# EAGLE library part CC2520 (library ti_rf)
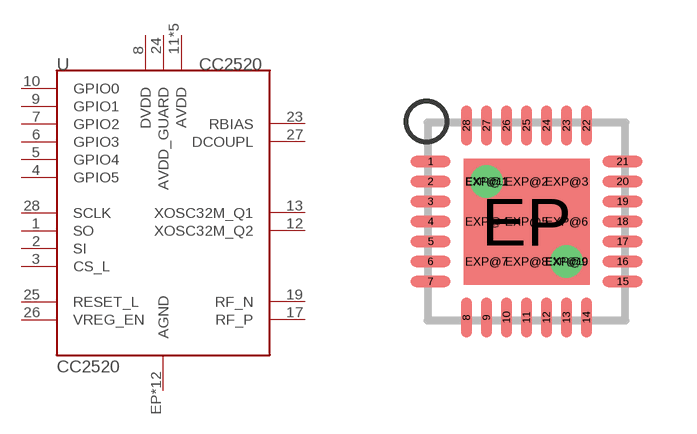
[diagram p0: symbol with the pads of RHD_S-PVQFN-N28; footprint RHD_S-PVQFN-N28]

Designator prefix U

## CC2520  [RHD_S-PVQFN-N28]
1  SO
2  SI
3  CS_L
4  GPIO5
5  GPIO4
6  GPIO3
7  GPIO2
8  DVDD
9  GPIO1
10  GPIO0
11  AVDD
12  XOSC32M_Q2
13  XOSC32M_Q1
14  AVDD
16  AVDD
17  RF_P
19  RF_N
20  AVDD
22  AVDD
23  RBIAS
24  AVDD_GUARD
25  RESET_L
26  VREG_EN
27  DCOUPL
28  SCLK
EP  AGND
EXP@1  AGND
EXP@2  AGND
EXP@3  AGND
EXP@4  AGND
EXP@5  AGND
EXP@6  AGND
EXP@7  AGND
EXP@8  AGND
EXP@9  AGND
EXP@10  AGND
EXP@11  AGND

## Footprint RHD_S-PVQFN-N28 (pad centres in mm)
RHB (S-PQFP-N32) Source: http://focus.ti.com/lit/ds/symlink/tusb2046b.pdf
smd 1 x 0.28: 1 -2.4,1.5; 2 -2.4,1; 3 -2.4,0.5; 4 -2.4,0; 5 -2.4,-0.5; 6 -2.4,-1; 7 -2.4,-1.5; 15 2.4,-1.5; 16 2.4,-1; 17 2.4,-0.5; 18 2.4,0; 19 2.4,0.5; 20 2.4,1; 21 2.4,1.5
smd 0.28 x 1: 8 -1.5,-2.4; 9 -1,-2.4; 10 -0.5,-2.4; 11 0,-2.4; 12 0.5,-2.4; 13 1,-2.4; 14 1.5,-2.4; 22 1.5,2.4; 23 1,2.4; 24 0.5,2.4; 25 0,2.4; 26 -0.5,2.4; 27 -1,2.4; 28 -1.5,2.4
smd 3.15 x 3.15: EP 0,0
drill 0.3 pad 0.6: EXP@1 -1,1; EXP@2 0,1; EXP@3 1,1; EXP@4 -1,0; EXP@5 0,0; EXP@6 1,0; EXP@7 -1,-1; EXP@8 0,-1; EXP@9 1,-1; EXP@10 1,-1; EXP@11 -1,1